# Altium schematic symbol library U_LMV358.Schlib: 1 symbol
Pins are listed as number, name and electrical type; pins without a type are passive.

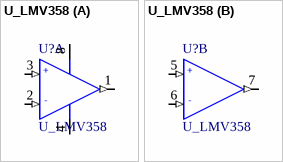
[diagram p0: symbol U_LMV358]

## U_LMV358
designator U?
part A pins: 1 OUT (out), 2 -IN (in), 3 +IN (in), 4 V- (power), 8 V+ (power)
part B pins: 5 +IN (in), 6 -IN (in), 7 OUT (out)
part A text: +; -
part B text: +; -